# EAGLE library part RGB5050LED (library gee_s)
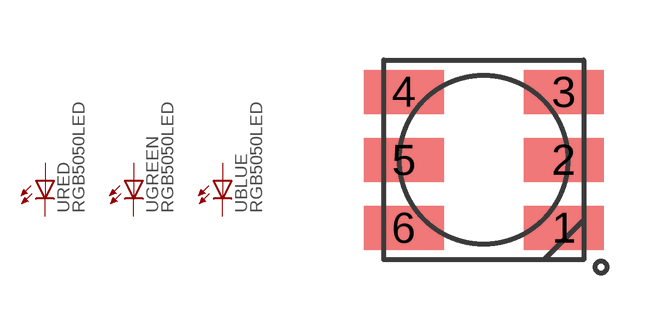
[diagram p17: symbol with the pads of 5050-6; footprint 5050-6]

Designator prefix -; gates GREEN=LED RED=LED BLUE=LED

## RGB5050LED  [5050-6]
1  BLUE:+  pas
2  RED:+  pas
3  GREEN:+  pas
4  GREEN:-  pas
5  RED:-  pas
6  BLUE:-  pas

## Footprint 5050-6 (pad centres in mm)
smd 2 x 1.1: 1 2,-1.7; 2 2,0; 3 2,1.7; 4 -2,1.7; 5 -2,0; 6 -2,-1.7